# Altium schematic symbol library Diodes TVS.SchLib: 8 symbols
Pins are listed as number, name and electrical type; pins without a type are passive.

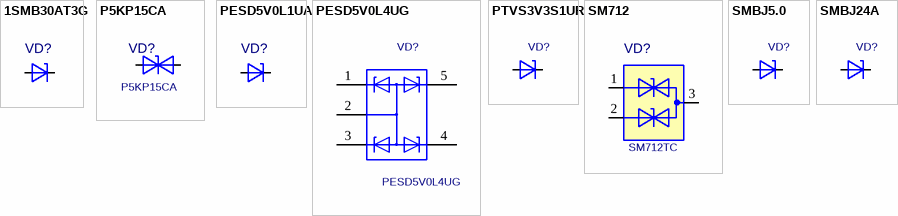
[diagram p0: symbols 1SMB30AT3G to SMBJ24A]

## 1SMB30AT3G
designator VD?  (value not drawn)
footprint DO-214AA
pins: 1, 2

## P5KP15CA
designator VD?
footprint P600
pins: 1, 2

## PESD5V0L1UA
designator VD?  (value not drawn)
footprint SOD323 (SC-76)
pins: 1, 2

## PESD5V0L4UG
designator VD?
Value: *
footprint SOT353/SC-88A
pins: 1, 2, 3, 4, 5

## PTVS3V3S1UR
designator VD?  (value not drawn)
Value: *
footprint SOD123W
pins: 1, 2

## SM712
designator VD?, comment SM712TC
footprint SOT-23
pins: 1 (power), 2 (power), 3 (power)

## SMBJ5.0
designator VD?  (value not drawn)
Value: *
footprint SMB
pins: 1, 2

## SMBJ24A
designator VD?, comment SMBJ5.0  (value not drawn)
Value: *
footprint SMB
pins: 1, 2